# Altium schematic symbol library Sensors.SchLib: 26 symbols
Pins are listed as number, name and electrical type; pins without a type are passive.

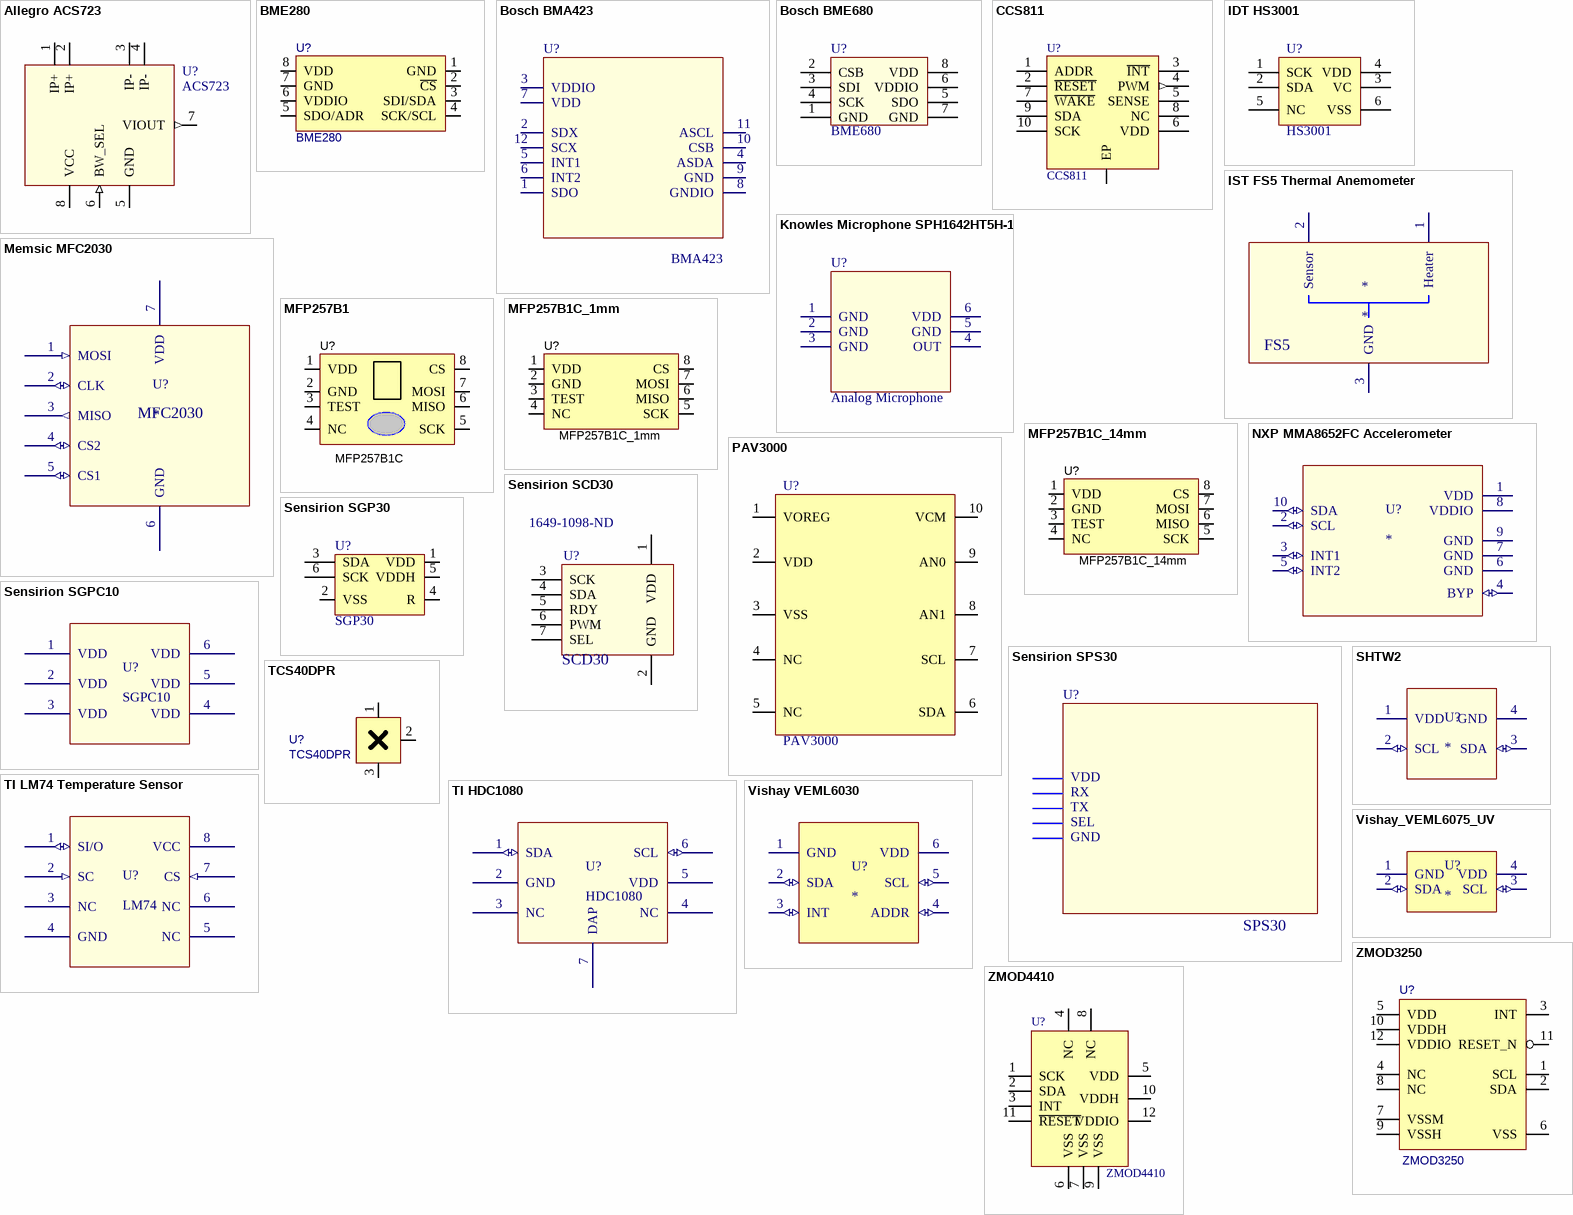
[diagram p0: symbols Allegro ACS723 to ZMOD4410]

## Allegro ACS723
designator U?, comment ACS723
Hall effect current sensor; Manufacturer: Allegro MicroSystems; Manufacturer Part Number: ACS723LLCTR-10AB-T; For Measuring: AC/DC; Sensor Type: Hall Effect, Open Loop; Current - Sensing: 10A; Number of Channels: 1; Output: Ratiometric, Voltage; Sensitivity: 200mv/A; Frequency: DC ~ 80kHz; Linearity: ±1%; Accuracy: ±3%; Voltage - Supply: 5V; Response Time: 5µs; Current - Supply (Max): 14mA; Polarization: Bidirectional; Supplier 1: Digikey; Stock 1: 2655; Pricing 1: 1=5.27, 5=4.654, 10=4.11, 25=3.3348, 50=2.947, 100=2.8694, 500=2.4041, 1000=2.249 (USD); Category: Sensors, Transducers; Family: Current Transducers; Series: -; Packaging: Tape &amp; Reel (TR); Operating Temperature: -40°C ~ 150°C; Mounting Type: Surface Mount; Package / Case: 8-SOIC (0.154", 3.90mm Width); Supplier Part Number 1: 620-1642-6-ND
footprint SOIC8
pins: 1 IP+ (power), 2 IP+ (power), 3 IP- (power), 4 IP- (power), 5 GND (power), 6 BW_SEL (in), 7 VIOUT (out), 8 VCC (power)

## BME280
designator U?
SENSOR Humidity Temperature 0 ~ 100% RH I²C SPI ±3% 1s 8-Pin LGA; Manufacturer: Bosch; TZOA PN: 278-00001; Supplier 1: Digi-Key; Manufacturer Part Number: BME280; Stock 1: 12023; Pricing 1: 1=7.58, 5=6.65, 10=5.984, 25=5.3196, 50=4.9206, 100=4.2556, 500=3.9896, 1000=3.7236 (USD); Supplier Part Number 1: 828-1063-1-ND
footprint BME280 (Bosch Humidity, Pressure Sensor)
pins: 1 GND, 2 ~{CS}, 3 SDI/SDA, 4 SCK/SCL, 5 SDO/ADR, 6 VDDIO, 7 GND, 8 VDD

## Bosch BMA423
designator U?, comment BMA423
Accelerometer; Manufacturer: Bosch Tools; Supplier 1: Digikey; Manufacturer Part Number: BMA423; Stock 1: 19667; Pricing 1: 1=2.77, 5=2.618, 10=2.244, 25=1.7952, 50=1.6456, 100=1.496, 500=1.309, 1000=1.1594, 5000=1.0846 (USD); ComponentLink1URL: http://datasheet.octopart.com/BMA423-Bosch-Tools-datasheet-103686866.pdf; ComponentLink1Description: http://datasheet.octopart.com/BMA423-Bosch-Tools-datasheet-103686866.pdf; Supplier Part Number 1: 828-1073-1-ND
footprint BMA324 (Bosch Accelerometer)
pins: 1 SDO (power), 2 SDX, 3 VDDIO, 4 ASDA, 5 INT1, 6 INT2, 7 VDD (power), 8 GNDIO, 9 GND, 10 CSB, 11 ASCL, 12 SCX

## Bosch BME680
designator U?, comment BME680
VOC, Humidity, Temperature, Pressure Sensor; Supplier 1: Arrow; Supplier 2: Digi-Key; Supplier Part Number 1: BME680; Supplier Part Number 2: 828-1077-1-ND
footprint BME 680 (Bosch Envirnmental Sensor)
pins: 1 GND (power), 2 CSB, 3 SDI, 4 SCK, 5 SDO, 6 VDDIO (power), 7 GND (power), 8 VDD (power)

## CCS811
designator U?
SENSOR Air Quality -5°C ~ 50°C 10 to 95% RH I²C LGA; Manufacturer: AMS; TZOA PN: 278-00002; Manufacturer Part Number: CCS811; Supplier 1: Digi-Key; Supplier Part Number 1: CCS811CT-ND
footprint CCS811
pins: 1 ADDR, 2 ~{RESET}, 3 ~{INT}, 4 PWM (out), 5 SENSE, 6 VDD (power), 7 ~{WAKE}, 8 NC, 9 SDA, 10 SCK, EP

## IDT HS3001
designator U?, comment HS3001
High Accuracy RH and Temp Sensor; Supplier 1: Digi-Key; Supplier Part Number 1: 800-3830-ND
footprint LGA6C100P3X2_300X241X90 (LGA, 6-Leads, Body 3.00x2.41mmx0.90mm, Pitch 1.00mm)
pins: 1 SCK, 2 SDA, 3 VC (power), 4 VDD (power), 5 NC, 6 VSS (power)

## IST FS5 Thermal Anemometer
designator *
footprint IST Sensor Solder Pads
pins: 1 Heater, 2 Sensor, 3 GND
text: FS5

## Knowles Microphone SPH1642HT5H-1
designator U?  (value not drawn)
Manufacturer: Knowles; Manufacturer Part Number: SPH1642HT5H-1; Output Type: Analog; Direction: Omnidirectional; Frequency Range: 50Hz ~ 10kHz; Sensitivity: -38dB ±1dB @ 94dB SPL; S/N Ratio: 65dB; Impedance: 500 Ohm; Voltage Range: 1.5 ~ 3.6V; Current - Supply: 185µA; Port Location: Top; Seal Rating: None; Shape: Rectangular; Supplier 1: Digi-Key; Stock 1: 33464; Pricing 1: 1=1.44, 10=1.142, 25=1.0404, 50=0.9728, 100=0.9054, 250=0.8266, 500=0.7704, 1000=0.7198 (USD); Category: Audio Products; Family: Microphones; Series: SiSonic™; Packaging: Tape & Reel (TR); Type: MEMS (Silicon); Voltage - Rated: -; Termination: Solder Pads; Size / Dimension: 3.50mm L x 2.65mm W; Height (Max): 1.10mm; Supplier Part Number 1: 423-1409-1-ND
footprint Knowles Analog Microphone
pins: 1 GND (power), 2 GND (power), 3 GND (power), 4 OUT (power), 5 GND (power), 6 VDD (power)
text: Analog Microphone

## Memsic MFC2030
designator U?
footprint MFC2030
pins: 1 MOSI (in), 2 CLK (io), 3 MISO (out), 4 CS2 (io), 5 CS1 (io), 6 GND (power), 7 VDD (power)
text: MFC2030

## MFP257B1
designator U?, comment MFP257B1C
SENSOR Thermal Gas Flow -40°C to 85°C; Manufacturer: MEMSIC; TZOA PN: 279-00001; Manufacturer Part Number: MFP257B1C; Supplier Part Number 1: MFP257B1C; Supplier 1: memsic.com
footprint MFP257B1_BGA (Miniturized Flow Sensor)
pins: 1 VDD, 2 GND, 3 TEST, 4 NC, 5 SCK, 6 MISO, 7 MOSI, 8 CS

## MFP257B1C_1mm
designator U?
SENSOR Thermal Gas Flow -40°C to 85°C; Manufacturer: MEMSIC; TZOA PN: 279-00001; Manufacturer Part Number: MFP257B1C; Supplier Part Number 1: MFP257B1C; Supplier 1: memsic.com
footprint MFP257B1C_TZOA_1mm (Miniturized Flow Sensor)
pins: 1 VDD, 2 GND, 3 TEST, 4 NC, 5 SCK, 6 MISO, 7 MOSI, 8 CS

## MFP257B1C_14mm
designator U?
SENSOR Thermal Gas Flow -40°C to 85°C; Manufacturer: MEMSIC; TZOA PN: 279-00001; Manufacturer Part Number: MFP257B1C; Supplier Part Number 1: MFP257B1C; Supplier 1: memsic.com
footprint MFP257B1C_TZOA_1.4mm (Miniturized Flow Sensor)
pins: 1 VDD, 2 GND, 3 TEST, 4 NC, 5 SCK, 6 MISO, 7 MOSI, 8 CS

## NXP MMA8652FC Accelerometer
designator U?
Manufacturer: Freescale Semiconductor - NXP; Manufacturer Part Number: MMA8652FCR1; Axis: X, Y, Z; Acceleration Range: ±2g, 4g, 8g; Sensitivity (LSB/g): 1024 (±2g) ~ 256 (±8g); Bandwidth: 0.78Hz ~ 400Hz; Output Type: I²C; Voltage - Supply: 1.95 V ~ 3.6 V; Supplier 1: Digi-Key; Supplier Part Number 1: MMA8652FCR1CT-ND; RoHS: RoHS Compliant By Exemption; Category: Sensors, Transducers; Stock: 31605; Pricing: 1=1.62, 10=1.448, 25=1.3612, 100=1.303, 250=1.24516, 500=1.15826, 1000=1.12931 (CAD); Packaging: Cut Tape (CT); Part Status: Active; Type: Digital; Sensitivity (mV/g): -; Features: Sleep Mode; Operating Temperature: -40°C ~ 85°C (TA); Mounting Type: Surface Mount; Package / Case: 10-VFDFN; Supplier Device Package: 10-DFN (2x2); ComponentLink1URL: http://cache.freescale.com/files/sensors/doc/data_sheet/MMA8652FC.pdf; ComponentLink1Description: http://cache.freescale.com/files/sensors/doc/data_sheet/MMA8652FC.pdf
footprint 10-DFN
pins: 1 VDD (power), 2 SCL (io), 3 INT1 (io), 4 BYP (io), 5 INT2 (io), 6 GND (power), 7 GND (power), 8 VDDIO (power), 9 GND (power), 10 SDA (io)

## PAV3000
designator U?
Air Velocity Sensor
pins: 1 VOREG (power), 2 VDD (power), 3 VSS, 4 NC, 5 NC, 6 SDA, 7 SCL, 8 AN1, 9 AN0, 10 VCM

## Sensirion SCD30
designator U?  Supplier Part Number 1: 1649-1098-ND  (hidden comment: *)
CO2 Sensor; Supplier 1: Digi-Key
footprint SCD30 (NDIR CO2 Sensor)
pins: 1 VDD (power), 2 GND (power), 3 SCK, 4 SDA, 5 RDY, 6 PWM, 7 SEL
text: SCD30

## Sensirion SGP30
designator U?, comment SGP30
VOC Sensor; Supplier 1: Digi-Key; Supplier 2: Arrow; Supplier Part Number 1: 1649-1084-1-ND; Supplier Part Number 2: SGP30-2.5K
footprint SGP30
pins: 1 VDD (power), 2 VSS (power), 3 SDA, 4 R, 5 VDDH (power), 6 SCK

## Sensirion SGPC10
designator U?, comment SGPC10
VOC and CO2 Sensor
pins: 1 VDD (power), 2 VDD (power), 3 VDD (power), 4 VDD (power), 5 VDD (power), 6 VDD (power)

## Sensirion SPS30
designator U?  (value not drawn)
Sensirion PM Sensor
footprint SPS30 (Sensirion PM Sensor)
text: VDD; RX; TX; SEL; GND; SPS30

## SHTW2
designator U?
footprint SHTW2
pins: 1 VDD (power), 2 SCL (io), 3 SDA (io), 4 GND (power)

## TCS40DPR
designator U?
Sensor,Hall Effect,Toshiba,SMD,SOT-23F; Manufacturer Part Number: TCS40DPR,LF; TZOA PN: 261-00001; Function: Omnipolar Switch; Polarization: Either; Sensing Range: ±4.4mT Trip, ±0.9mT Release; Test Condition: 25°C; Voltage - Supply: 2.3 V ~ 5.5 V; Current - Supply (Max): 1.6mA (Typ); Current - Output (Max): 5mA; Output Type: Push-Pull; Supplier 1: Digi-Key; Manufacturer: Toshiba; Stock 1: 50947; Pricing 1: 1=0.4, 5=0.376, 10=0.334, 25=0.308, 50=0.2464, 100=0.2112, 500=0.1848, 1000=0.1584 (USD); Category: Sensors, Transducers; Family: Magnetic Sensors - Switches (Solid State); Series: TCS; Packaging: Cut Tape (CT); Technology: Hall Effect; Features: -; Operating Temperature: -40°C ~ 85°C (TA); Package / Case: SOT-23-3 Flat Leads; Supplier Device Package: SOT-23F; ComponentLink1URL: http://toshiba.semicon-storage.com/info/docget.jsp?did=30107&prodName=TCS40DPR; ComponentLink1Description: http://toshiba.semicon-storage.com/info/docget.jsp?did=30107&prodName=TCS40DPR; Supplier Part Number 1: TCS40DPRLFCT-ND
footprint SOT-23F (SOT-23.ogl)
pins: 1 VCC, 2 Vout, 3 GND

## TI HDC1080
designator U?, comment HDC1080
High Stability Humidity and Temperture Sensor; Manufacturer: Texas Instruments; Manufacturer Part Number: HDC1080DMBT; Sensor Type: Humidity, Temperature; Humidity Range: 0 ~ 100% RH; Output Type: I²C; Output: 14b; Accuracy: ±2% RH; Response Time: 15s; Voltage - Supply: 2.7 V ~ 5.5 V; ID: 27749234; Supplier 1: Digi-Key; RoHS: RoHS Compliant; Category: Sensors, Transducers; Stock 1: 420; Pricing 1: 1=4.78, 10=4.292, 25=4.0648, 100=3.5214 (CAD); Sensitivity: -; Mounting Type: Surface Mount; Operating Temperature: -20°C ~ 85°C; ComponentLink1URL: http://www.ti.com/lit/ds/symlink/hdc1080.pdf; ComponentLink1Description: http://www.ti.com/lit/ds/symlink/hdc1080.pdf; Supplier 2: Arrow; Stock 2: 180; Pricing 2: 1=2.84, 10=2.556, 25=2.447, 100=2.202 (USD); Package Quantity: 1; ComponentLink2URL: https://www.arrow.com/en/products/hdc1080dmbt/texas-instruments/; ComponentLink2Description: https://www.arrow.com/en/products/hdc1080dmbt/texas-instruments/; Supplier Part Number 1: 296-43864-1-ND
footprint HDC1080
pins: 1 SDA (io), 2 GND (power), 3 NC, 4 NC, 5 VDD, 6 SCL (io), 7 DAP

## TI LM74 Temperature Sensor
designator U?, comment LM74
High Precision SPI Temperature Sensor; Manufacturer: Texas Instruments; Manufacturer Part Number: LM74CIMX-3/NOPB; Sensor Type: Digital, Local; Sensing Temperature - Local: -55°C ~ 150°C; Voltage - Supply: 3 V ~ 5.5 V; Resolution: 12 b; Accuracy - Highest (Lowest): 1.25°C (±5°C); Test Condition: -10°C ~ 65°C (-55°C ~ 150°C); ID: 15746193; Supplier 1: Digi-Key; RoHS: RoHS Compliant; Category: Sensors, Transducers; Stock 1: 2798; Pricing 1: 1=3.17, 10=2.57, 25=2.0556, 100=1.713, 250=1.58452, 500=1.49888, 1000=1.32758 (CAD); Packaging: Cut Tape (CT); Sensing Temperature - Remote: -; Output Type: SPI; Features: Shutdown Mode; Operating Temperature: -55°C ~ 150°C; Package / Case: 8-SOIC (0.154", 3.90mm Width); Supplier Device Package: 8-SOIC; ComponentLink1URL: http://www.ti.com/lit/ds/symlink/lm74.pdf; ComponentLink1Description: http://www.ti.com/lit/ds/symlink/lm74.pdf; Supplier 2: Arrow; Stock 2: 307; Pricing 2: 1=1.3651, 10=1.1549, 25=1.0394, 100=0.9531, 250=0.8578, 500=0.7785, 1000=0.7496 (USD); Package Quantity: 1; ComponentLink2URL: https://www.arrow.com/en/products/lm74cimx-3nopb/texas-instruments/; ComponentLink2Description: https://www.arrow.com/en/products/lm74cimx-3nopb/texas-instruments/; Supplier Part Number 1: LM74CIMX-3/NOPBCT-ND; Supplier Part Number 2: OfJnSEzRe5oB7m2pIV3FuAMcZAoN63R4A5jNzUHHw3s
footprint SOIC-8
pins: 1 SI/O (io), 2 SC (in), 3 NC, 4 GND (power), 5 NC, 6 NC, 7 CS (in), 8 VCC (power)

## Vishay VEML6030
designator U?
Manufacturer: Vishay Semiconductor Opto Division; Manufacturer Part Number: VEML6030; Wavelength: 550nm; Proximity Detection: No; Output Type: I²C; Voltage - Supply: 2.5 V ~ 3.6 V; Supplier 1: Digi-Key; Supplier Part Number 1: VEML6030CT-ND; RoHS: RoHS Compliant; Category: Sensors, Transducers; Stock: 2927; Pricing: 1=3.11, 5=2.94, 10=2.518, 25=2.0144, 50=1.8466, 100=1.6787, 500=1.46888, 1000=1.301 (CAD); Packaging: Cut Tape (CT); Part Status: Active; Type: Ambient; Operating Temperature: -25°C ~ 85°C; Mounting Type: Surface Mount; Package / Case: 6-SMD, No Lead; Supplier Device Package: 6-SMD; ComponentLink1URL: http://www.vishay.com/docs/84366/veml6030.pdf; ComponentLink1Description: http://www.vishay.com/docs/84366/veml6030.pdf
footprint VEML6030
pins: 1 GND (power), 2 SDA (io), 3 INT (io), 4 ADDR (io), 5 SCL (io), 6 VDD (power)

## Vishay_VEML6075_UV
designator U?
Supplier 1: Digi-Key; Supplier Part Number 1: VEML6075CT-ND; Supplier 2: Arrow
footprint VEML6075
pins: 1 GND (power), 2 SDA (io), 3 SCL (io), 4 VDD (power)

## ZMOD3250
designator U?
Sensor, VOC, SMD, I2C Bus; Manufacturer: IDT; Manufacturer Part Number: ZMOD3250T; TZOA PN: 278-; Supplier 1: IDT; Supplier Part Number 1: ZMOD3250T
footprint ZMOD3250 (VOC Sensor)
pins: 1 SCL, 2 SDA, 3 INT, 4 NC, 5 VDD, 6 VSS, 7 VSSM, 8 NC, 9 VSSH, 10 VDDH, 11 RESET_N, 12 VDDIO

## ZMOD4410
designator U?
Sensor, VOC, SMD, I2C Bus; Manufacturer: IDT; Manufacturer Part Number: ZMOD4410AI1R; Supplier 1: Digi-Key; Stock 1: 3892; Pricing 1: 1=13.7, 5=12.018, 10=10.816, 25=9.614, 50=8.893, 100=7.6912, 500=7.2105, 1000=6.7298 (USD); Supplier Part Number 1: 1833-1031-1-ND
footprint ZMOD4410 (VOC Sensor)
pins: 1 SCK, 2 SDA, 3 INT, 4 NC hidden, 4 NC, 5 VDD (power), 6 VSS (power), 7 VSS (power), 8 NC hidden, 8 NC, 9 VSS (power), 10 VDDH (power), 11 ~{RESET}, 12 VDDIO (power)